# Altium schematic symbol library dc.SchLib: 11 symbols
Pins are listed as number, name and electrical type; pins without a type are passive.

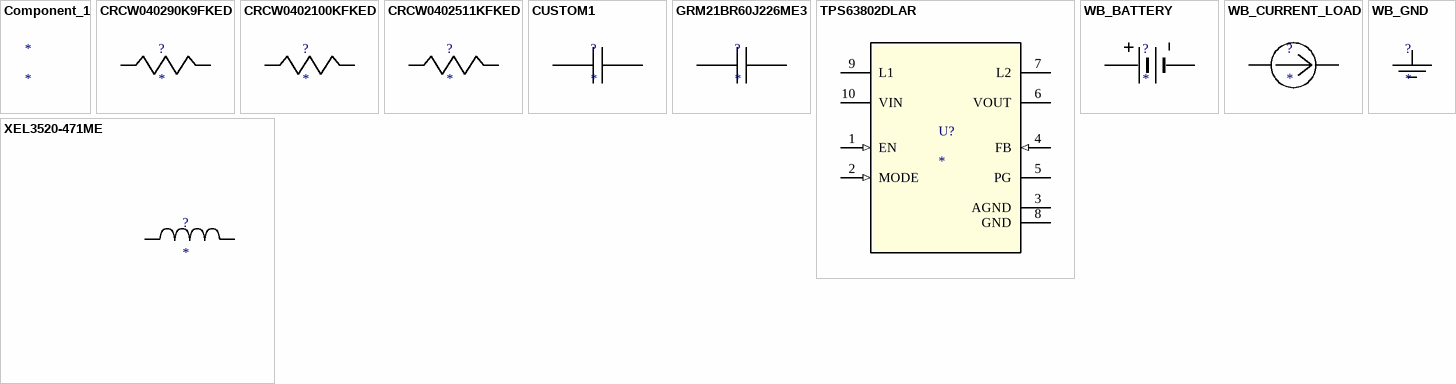
[diagram p0: symbols Component_1 to XEL3520-471ME]

## Component_1
designator *

## CRCW040290K9FKED
designator ?
Imported; Manufacturer_Part_Number: CRCW040290K9FKED; Vendor: Vishay-Dale; Manufacturer_Name: Vishay-Dale; RefDes: RefDes; TYPE: TYPE; Value: Value
footprint 0402
pins: 1, 2

## CRCW0402100KFKED
designator ?
Imported; Manufacturer_Part_Number: CRCW0402100KFKED; Vendor: Vishay-Dale; Manufacturer_Name: Vishay-Dale; RefDes: RefDes; TYPE: TYPE; Value: Value
footprint 0402
pins: 1, 2

## CRCW0402511KFKED
designator ?
Imported; Manufacturer_Part_Number: CRCW0402511KFKED; Vendor: Vishay-Dale; Manufacturer_Name: Vishay-Dale; RefDes: RefDes; TYPE: TYPE; Value: Value
footprint 0402
pins: 1, 2

## CUSTOM1
designator ?
Imported; Manufacturer_Part_Number: GENERIC_CAPACITOR; Part_Number: CUSTOM; Part_ID: 18; Vendor: Unknown; Component_Type_Index: 30; TaMin: 0.0; VDC: 4.7; Derated_Cap: 5.0E-6; Thermal_Status: N; Total_ESR: 0.001; Schematic_mapping_symbol: WB_CAPACITOR; Component_Type: Capacitor; IRMS: 0.1778078914404628; Footprint: 0.00; Thermal_ID: CUSTOM; Mount: ?; Technology: Ceramic; Dimension_X: 0.0; Dimension_Y: 0.0; Height: 0.0; TaMax: 0.0; Total_Footprint: 0.0; Price: 0.0; Total_Price: 0.0; ESR: 0.001; Tolerance: 0.0; Quantity: 1; Quantity_In_stock: 0; Total_IRMS: 0.1778078914404628; Series: ?; Cap: 5.0E-6; Total_Derated_Cap: 5.0E-6; Manufacture: CUSTOM; Manufacturer_Name: CUSTOM; RefDes: RefDes; TYPE: TYPE; Value: Value
footprint GEN_Cap
pins: 1, 2

## GRM21BR60J226ME3
designator ?
Imported; Manufacturer_Part_Number: GRM21BR60J226ME39L; Vendor: MuRata; Manufacturer_Name: MuRata; RefDes: RefDes; TYPE: TYPE; Value: Value
footprint 0805
pins: 1, 2

## TPS63802DLAR
designator U?
Imported; PartNumber: TPS63802DLAR; Manufacturer: Texas Instruments; RefDes: RefDes; TYPE: TYPE; Value: Value; Manufacturer_Part_Number: TPS63802DLAR; Manufacturer_Name: Texas Instruments
footprint DLA0010A
pins: 1 EN (in), 2 MODE (in), 3 AGND (power), 4 FB (in), 5 PG (oc), 6 VOUT (power), 7 L2, 8 GND (power), 9 L1, 10 VIN (power)

## WB_BATTERY
designator ?
Imported; Manufacturer_Part_Number: WB_BATTERY; PowerPortType: POWER_GROUND; Value: Value; Manufacturer_Name: WB_BATTERY; RefDes: RefDes; TYPE: TYPE
pins: 1 +, 2 -

## WB_CURRENT_LOAD
designator ?
Imported; Manufacturer_Part_Number: WB_CURRENT_LOAD; PowerPortType: POWER_GROUND; Value: Value; Manufacturer_Name: WB_CURRENT_LOAD; RefDes: RefDes; TYPE: TYPE
pins: 1 +, 2 -

## WB_GND
designator ?
Imported; Manufacturer_Part_Number: WB_GND; PowerPortType: POWER_GROUND; Value: Value; Manufacturer_Name: WB_GND; RefDes: RefDes; TYPE: TYPE
pins: 1

## XEL3520-471ME
designator ?
Imported; Manufacturer_Part_Number: XEL3520-471ME; Vendor: Coilcraft; Manufacturer_Name: Coilcraft; RefDes: RefDes; TYPE: TYPE; Value: Value
footprint FP-XEL3520-471ME
pins: 1, 2